# Altium footprint library Elreg_OCXO_Test_Board.PcbLib: 25 footprints (part 2 of 2)
Each footprint in its own frame and in the unit in brackets; x right, y up, seen from the top. Pads: shape width x height; smd on the part's side, far side on the other; paste and mask are expansions set on the pad; w line width, h text height; cw(c..) or ccw(c..) is an arc to the next point about the centre after c.
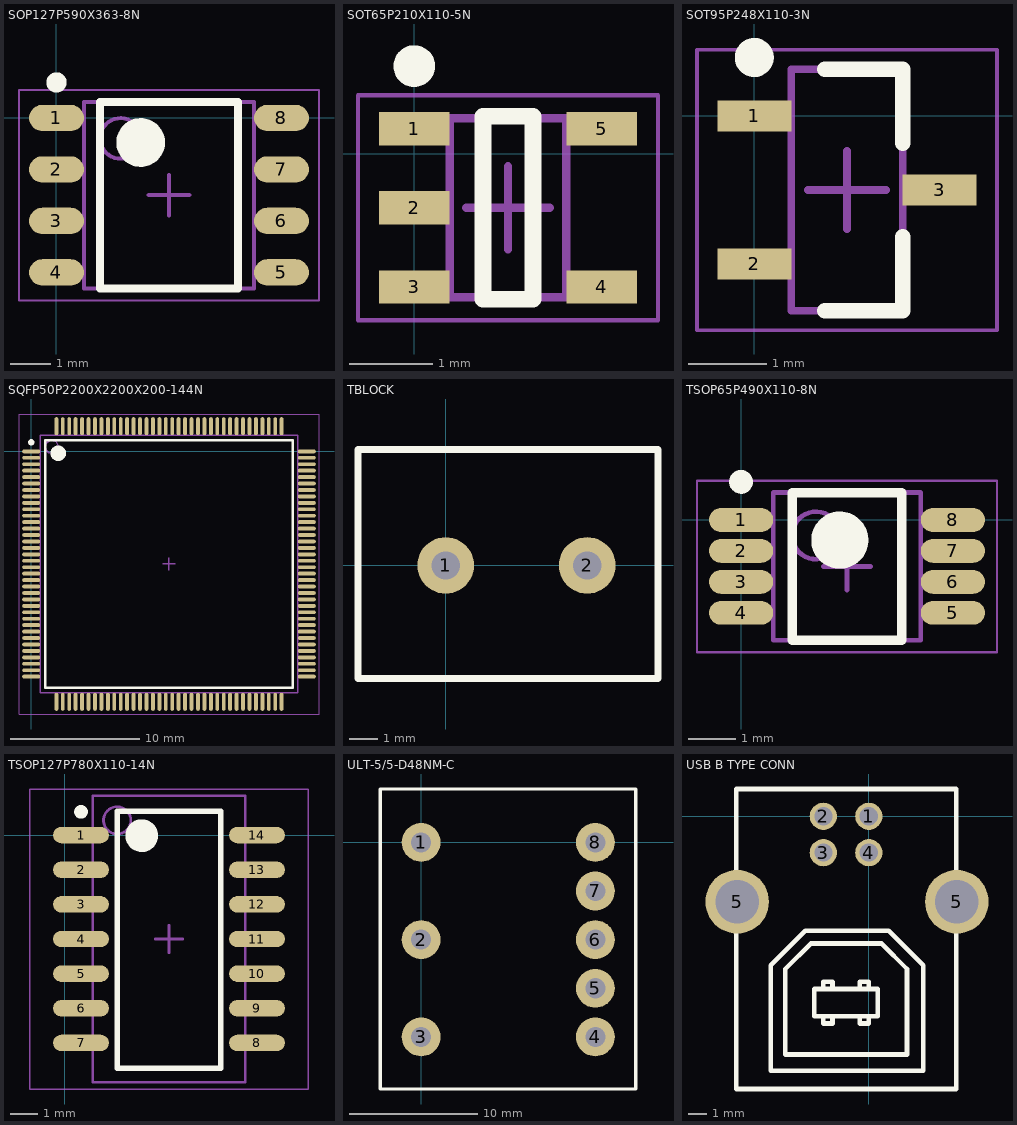
[diagram p1: the footprints below, top view; thin cyan lines are the x and y axes]

## SOP127P590X363-8N [mm] "SOP, 8-Leads, Body 4.88x3.91mm, Pitch 1.27mm, IPC Medium Density"
height 3.63
pads (8):
  oval 1.35x0.65 smd: 1(0,0) 2(0,-1.27) 3(0,-2.54) 4(0,-3.81) 5(5.55,-3.81) 6(5.55,-2.54) 7(5.55,-1.27) 8(5.55,0)
Top Overlay:
  circle w0.25: c0,0.875 r0.125
  circle w0.6: c2.075,-0.605 r0.3
  lines w0.2: 1.075,-4.205 1.075,0.395 4.475,0.395 4.475,-4.205 1.075,-4.205
Mechanical 13:
  circle w0.1: c1.575,-0.505 r0.5
  lines w0.1: 0.675,-4.205 0.675,0.395 4.875,0.395 4.875,-4.205 0.675,-4.205
Mechanical 15:
  lines w0.05: -0.925,-4.505 -0.925,0.695 6.475,0.695 6.475,-4.505 -0.925,-4.505
  lines w0.1: 2.275,-1.905 3.275,-1.905 ; 2.775,-2.405 2.775,-1.405
3D body "User Library-sop8_model.STEP": height 1.55, standoff -0.01, extent -0.341,-4.316 5.639,0.584

## SOT65P210X110-5N [mm] "SOT23, 5-Leads, Body 2.00x2.10mm, Pitch 0.65mm, IPC Medium Density"
height 1.1
pads (5):
  rect 0.85x0.4 smd: 1(0,0.3) 2(0,-0.65) 3(0,-1.6) 4(2.25,-1.6) 5(2.25,0.3)
Top Overlay:
  circle w0.25: c0,1.05 r0.125
  lines w0.2: 0.825,-1.75 1.425,-1.75 1.425,0.45 0.825,0.45 0.825,-1.75
Mechanical 13:
  lines w0.1: 0.425,-1.725 0.425,0.425 1.825,0.425 1.825,-1.725 0.425,-1.725
Mechanical 15:
  lines w0.05: -0.675,-2 -0.675,0.7 2.925,0.7 2.925,-2 -0.675,-2
  lines w0.1: 0.625,-0.65 1.625,-0.65 ; 1.125,-1.15 1.125,-0.15
3D body "User Library-TSSOP-5 (SOT-23-5 PITCH 0_65).STEP": height 1.15, standoff 0.04, extent 0,-1.775 2.25,0.475

## SOT95P248X110-3N [mm] "SOT23, 3-Leads, Body 2.95x2.48mm, Pitch 0.95mm, IPC Medium Density"
height 1.1
pads (3):
  rect 0.95x0.4 smd: 1(0,0) 2(0,-1.9) 3(2.38,-0.95)
Top Overlay:
  circle w0.25: c0,0.75 r0.125
  lines w0.2: 0.905,-2.5 1.905,-2.5 1.905,-1.55 ; 0.905,0.6 1.905,0.6 1.905,-0.35
Mechanical 13:
  lines w0.1: 0.475,-2.5 0.475,0.6 1.905,0.6 1.905,-2.5 0.475,-2.5
Mechanical 15:
  lines w0.05: -0.735,-2.75 -0.735,0.85 3.115,0.85 3.115,-2.75 -0.735,-2.75
  lines w0.1: 0.69,-0.95 1.69,-0.95 ; 1.19,-1.45 1.19,-0.45
3D body: height 1.1, standoff 0.05, extent 0.475,-2.5 1.905,0.6

## SQFP50P2200X2200X200-144N [mm] "SQFP, 144-Leads, Body 20.00x20.00mm, Pitch 0.50mm, IPC Medium Density"
height 2
pads (144):
  oval 1.4x0.3 smd: 1(0,0) 2(0,-0.5) 3(0,-1) 4(0,-1.5) 5(0,-2) 6(0,-2.5) 7(0,-3) 8(0,-3.5) 9(0,-4) 10(0,-4.5) 11(0,-5) 12(0,-5.5) 13(0,-6) 14(0,-6.5) 15(0,-7) 16(0,-7.5) 17(0,-8) 18(0,-8.5) 19(0,-9) 20(0,-9.5) 21(0,-10) 22(0,-10.5) 23(0,-11) 24(0,-11.5) 25(0,-12) 26(0,-12.5) 27(0,-13) 28(0,-13.5) 29(0,-14) 30(0,-14.5) 31(0,-15) 32(0,-15.5) 33(0,-16) 34(0,-16.5) 35(0,-17) 36(0,-17.5) 73(21.4,-17.5) 74(21.4,-17) 75(21.4,-16.5) 76(21.4,-16) 77(21.4,-15.5) 78(21.4,-15) 79(21.4,-14.5) 80(21.4,-14) 81(21.4,-13.5) 82(21.4,-13) 83(21.4,-12.5) 84(21.4,-12) 85(21.4,-11.5) 86(21.4,-11) 87(21.4,-10.5) 88(21.4,-10) 89(21.4,-9.5) 90(21.4,-9) 91(21.4,-8.5) 92(21.4,-8) 93(21.4,-7.5) 94(21.4,-7) 95(21.4,-6.5) 96(21.4,-6) 97(21.4,-5.5) 98(21.4,-5) 99(21.4,-4.5) 100(21.4,-4) 101(21.4,-3.5) 102(21.4,-3) 103(21.4,-2.5) 104(21.4,-2) 105(21.4,-1.5) 106(21.4,-1) 107(21.4,-0.5) 108(21.4,0)
  oval 0.3x1.4 smd: 37(1.95,-19.45) 38(2.45,-19.45) 39(2.95,-19.45) 40(3.45,-19.45) 41(3.95,-19.45) 42(4.45,-19.45) 43(4.95,-19.45) 44(5.45,-19.45) 45(5.95,-19.45) 46(6.45,-19.45) 47(6.95,-19.45) 48(7.45,-19.45) 49(7.95,-19.45) 50(8.45,-19.45) 51(8.95,-19.45) 52(9.45,-19.45) 53(9.95,-19.45) 54(10.45,-19.45) 55(10.95,-19.45) 56(11.45,-19.45) 57(11.95,-19.45) 58(12.45,-19.45) 59(12.95,-19.45) 60(13.45,-19.45) 61(13.95,-19.45) 62(14.45,-19.45) 63(14.95,-19.45) 64(15.45,-19.45) 65(15.95,-19.45) 66(16.45,-19.45) 67(16.95,-19.45) 68(17.45,-19.45) 69(17.95,-19.45) 70(18.45,-19.45) 71(18.95,-19.45) 72(19.45,-19.45) 109(19.45,1.95) 110(18.95,1.95) 111(18.45,1.95) 112(17.95,1.95) 113(17.45,1.95) 114(16.95,1.95) 115(16.45,1.95) 116(15.95,1.95) 117(15.45,1.95) 118(14.95,1.95) 119(14.45,1.95) 120(13.95,1.95) 121(13.45,1.95) 122(12.95,1.95) 123(12.45,1.95) 124(11.95,1.95) 125(11.45,1.95) 126(10.95,1.95) 127(10.45,1.95) 128(9.95,1.95) 129(9.45,1.95) 130(8.95,1.95) 131(8.45,1.95) 132(7.95,1.95) 133(7.45,1.95) 134(6.95,1.95) 135(6.45,1.95) 136(5.95,1.95) 137(5.45,1.95) 138(4.95,1.95) 139(4.45,1.95) 140(3.95,1.95) 141(3.45,1.95) 142(2.95,1.95) 143(2.45,1.95) 144(1.95,1.95)
Top Overlay:
  circle w0.25: c0,0.7 r0.125
  circle w0.6: c2.1,-0.15 r0.3
  lines w0.2: 1.1,-18.35 1.1,0.85 20.3,0.85 20.3,-18.35 1.1,-18.35
Mechanical 13:
  circle w0.1: c1.6,0.35 r0.5
  lines w0.1: 0.7,-18.75 0.7,1.25 20.7,1.25 20.7,-18.75 0.7,-18.75
Mechanical 15:
  lines w0.05: -0.95,-20.4 -0.95,2.9 22.35,2.9 22.35,-20.4 -0.95,-20.4
  lines w0.1: 10.2,-8.75 11.2,-8.75 ; 10.7,-9.25 10.7,-8.25
3D body "User Library-LQFP144-1.step": height 1.63, standoff 0.03, extent -0.322,-19.786 21.678,2.214

## TBLOCK [mm]
pads (2):
  round 2 hole 1: 1(0,0) 2(5,0)
Top Overlay:
  lines w0.254: -3.1,-4 7.5,-4 7.5,4.1 -3.1,4.1 -3.1,-4
3D body "37818.stp": height 10.5, standoff -3, extent -3.085,-4.05 7.485,4.1

## TSOP65P490X110-8N [mm] "TSOP, 8-Leads, Body 3.00x3.00mm, Pitch 0.65mm, IPC Medium Density"
height 1.1
pads (8):
  oval 1.35x0.5 smd: 1(0,0) 2(0,-0.65) 3(0,-1.3) 4(0,-1.95) 5(4.45,-1.95) 6(4.45,-1.3) 7(4.45,-0.65) 8(4.45,0)
Top Overlay:
  circle w0.25: c0,0.8 r0.125
  circle w0.6: c2.075,-0.425 r0.3
  lines w0.2: 1.075,-2.525 1.075,0.575 3.375,0.575 3.375,-2.525 1.075,-2.525
Mechanical 13:
  circle w0.1: c1.575,-0.325 r0.5
  lines w0.1: 0.675,-2.525 0.675,0.575 3.775,0.575 3.775,-2.525 0.675,-2.525
Mechanical 15:
  lines w0.05: -0.925,-2.775 -0.925,0.825 5.375,0.825 5.375,-2.775 -0.925,-2.775
  lines w0.1: 1.725,-0.975 2.725,-0.975 ; 2.225,-1.475 2.225,-0.475
3D body "User Library-SOP50P310X110-8N[VSSOP_DGK_MO-187AA].step": height 1.15, standoff 0, extent -0.297,-2.525 4.747,0.575

## TSOP127P780X110-14N [mm] "TSOP, 14-Leads, Body 10.20x5.30mm, Pitch 1.27mm, IPC Medium Density"
height 1.1
pads (14):
  oval 2.05x0.6 smd: 1(0.6,0) 2(0.6,-1.27) 3(0.6,-2.54) 4(0.6,-3.81) 5(0.6,-5.08) 6(0.6,-6.35) 7(0.6,-7.62) 8(7.05,-7.62) 9(7.05,-6.35) 10(7.05,-5.08) 11(7.05,-3.81) 12(7.05,-2.54) 13(7.05,-1.27) 14(7.05,0)
Top Overlay:
  circle w0.25: c0.6,0.85 r0.125
  circle w0.6: c2.825,-0.02 r0.3
  lines w0.2: 1.925,-8.55 1.925,0.87 5.725,0.87 5.725,-8.55 ; 1.93,-8.55 5.715,-8.55
Mechanical 13:
  circle w0.1: c1.925,0.54 r0.5
  lines w0.1: 1.025,-9.06 1.025,1.44 6.625,1.44 6.625,-9.06 1.025,-9.06
Mechanical 15:
  lines w0.05: -1.275,-9.31 -1.275,1.69 8.925,1.69 8.925,-9.31 -1.275,-9.31
  lines w0.1: 3.325,-3.81 4.325,-3.81 ; 3.825,-4.31 3.825,-3.31
3D body "User Library-SOP14-p127-780.step": height 1.1, standoff 0, extent 0.125,-8.91 7.425,1.29

## ULT-5/5-D48NM-C [mil]
pads (8):
  round 120 hole 62: 1(0,0) 2(0,-300) 3(0,-600) 4(537.01,-600) 5(537.01,-450) 6(537.01,-300) 7(537.01,-150) 8(537.01,0)
Top Overlay:
  lines w10: -125.98,-760.63 661.42,-760.63 661.42,164.57 -125.98,164.57 -125.98,-760.63

## USB B TYPE CONN [mm]
pads (6):
  round 1.5 hole 1: 1(0,0) 2(-2.5,0) 3(-2.5,-2) 4(0,-2)
  round 3.5 hole 2.4: 5(-7.24,-4.7) 5(4.84,-4.7)
Top Overlay:
  lines w0.254: -2.5,-11 -2.5,-11.4 -2,-11.4 -2,-11 ; -2.5,-9.5 -2.5,-9.1 -2,-9.1 -2,-9.5 ; -0.5,-11 -0.5,-11.4 0,-11.4 0,-11 ; -0.5,-9.5 -0.5,-9.1 0,-9.1 0,-9.5 ; -7.3,-15 -7.3,1.5 4.8,1.5 4.8,-15 -7.3,-15 ; -5.4,-14 3,-14 3,-8.2 1.1,-6.3 -3.5,-6.3 -5.4,-8.2 -5.4,-14 ; -4.6,-13.1 2.1,-13.1 2.1,-8.4 0.7,-7 -3.2,-7 -4.6,-8.4 -4.6,-13.1 ; -3,-11 0.5,-11 0.5,-9.5 -3,-9.5 -3,-11
3D body "connector_xm7b-0442.stp": height 11.31, standoff -3.39, extent -8.9,-15 6.3,1